# EAGLE library part POWERPOLE_45A_1X2 (library NewSDR)
Anderson Power Products 45A High Power PCB Contacts - 1X2 Position
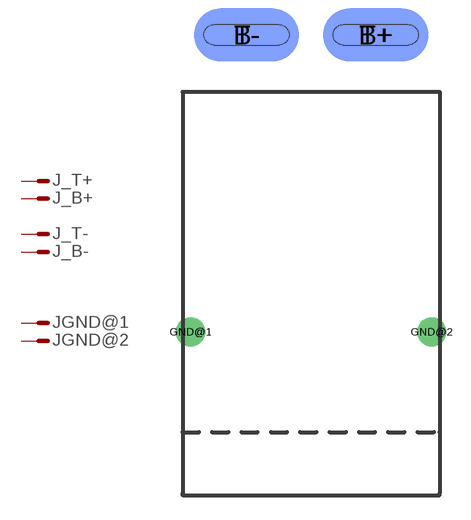
[diagram p193: symbol with the pads of POWERPOLE_45A_1X2; footprint POWERPOLE_45A_1X2]

Designator prefix J; gates _T+=M GND@1=M GND@2=M _T-=M _B+=M _B-=M

## POWERPOLE_45A_1X2  [POWERPOLE_45A_1X2]
B+  _B+:M  pas
B-  _B-:M  pas
GND@1  GND@1:M  pas
GND@2  GND@2:M  pas
T+  _T+:M  pas
T-  _T-:M  pas

## Footprint POWERPOLE_45A_1X2 (pad centres in mm)
Anderson Power Products 45A High Power PCB Contacts - 1X2 Position
smd 6.452 x 3.251 bottom: B+ 3.962,18.237; B- -3.962,18.237
drill 1.194: GND@1 -7.391,0; GND@2 7.391,0
smd 6.452 x 3.251: T+ 3.962,18.237; T- -3.962,18.237